# EAGLE library part LT1620IS8 (library linear-technology)
CURRENT SENSE AMP rail-to-rail current sense amp
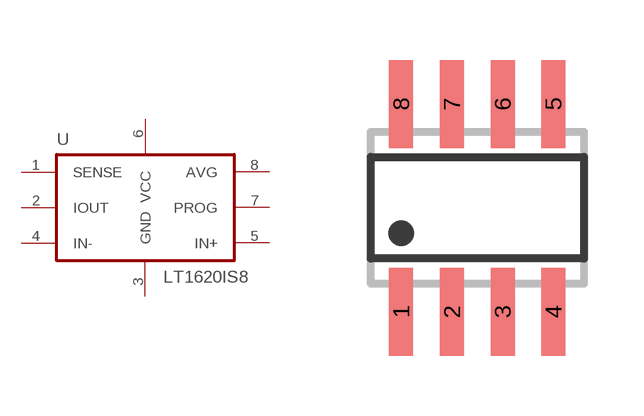
[diagram p21: symbol with the pads of SO08; footprint SO08]

Designator prefix U

## LT1620IS8  [SO08]
1  SENSE  out
2  IOUT  out
3  GND  pwr
4  IN-  in
5  IN+  in
6  VCC  pwr
7  PROG
8  AVG

## Footprint SO08 (pad centres in mm)
SMALL OUTLINE INTEGRATED CIRCUIT body 3.9 mm/JEDEC MS-012AA
smd 0.6 x 2.2: 1 -1.905,-2.6; 2 -0.635,-2.6; 3 0.635,-2.6; 4 1.905,-2.6; 5 1.905,2.6; 6 0.635,2.6; 7 -0.635,2.6; 8 -1.905,2.6